# EAGLE library part RJ45-MJ6-BX11-RVS1T073 (library Connector-new)
320140010
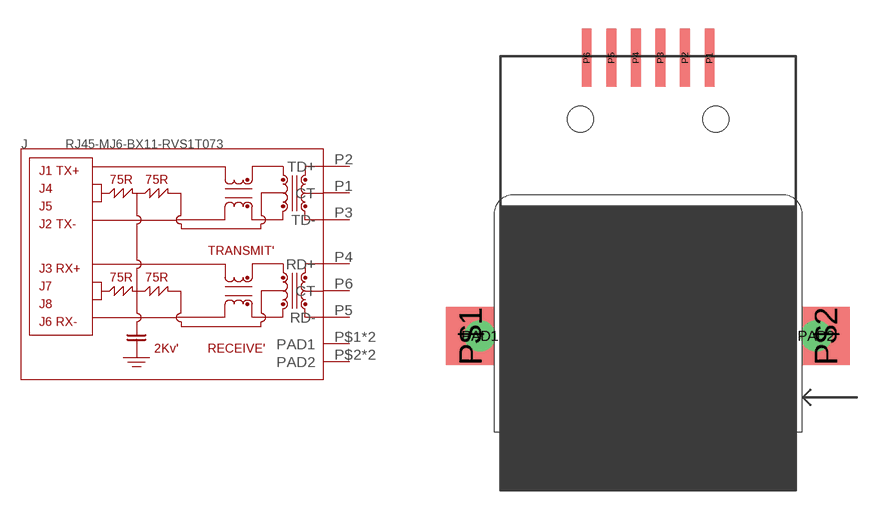
[diagram p0: symbol with the pads of RJ45-MJ6-BX11-RVS1T073; footprint RJ45-MJ6-BX11-RVS1T073]

Designator prefix J

## RJ45-MJ6-BX11-RVS1T073  [RJ45-MJ6-BX11-RVS1T073]
P1  CT
P2  TD+
P3  TD-
P4  RD+
P5  RD-
P6  CT
P$1  PAD1
P$2  PAD2
PAD1  PAD1
PAD2  PAD2

## Footprint RJ45-MJ6-BX11-RVS1T073 (pad centres in mm)
smd 0.5 x 3: P1 3.175,14.4; P2 1.905,14.4; P3 0.635,14.4; P4 -0.635,14.4; P5 -1.905,14.4; P6 -3.175,14.4
smd 2.5 x 3: P$1 -9.2,0; P$2 9.2,0
drill 1 pad 1.6: PAD1 -8.7,0; PAD2 8.7,0
hole 1.35 at -3.5,11.24
hole 1.35 at 3.5,11.24